# Altium schematic symbol library SCH - POWER - SWITCHMODE - TI TPS61071DDC.SchLib: 1 symbol
Pins are listed as number, name and electrical type; pins without a type are passive.

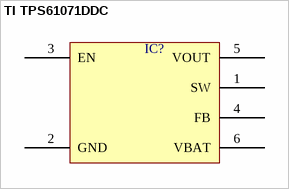
[diagram p0: symbol TI TPS61071DDC]

## TI TPS61071DDC
designator IC?  (value not drawn)
pins: 1 SW, 2 GND, 3 EN, 4 FB, 5 VOUT, 6 VBAT